# Altium footprint library R_C_L_D.PcbLib: 51 footprints (part 1 of 4)
Each footprint in its own frame and in the unit in brackets; x right, y up, seen from the top. Pads: shape width x height; smd on the part's side, far side on the other; paste and mask are expansions set on the pad; w line width, h text height; cw(c..) or ccw(c..) is an arc to the next point about the centre after c.
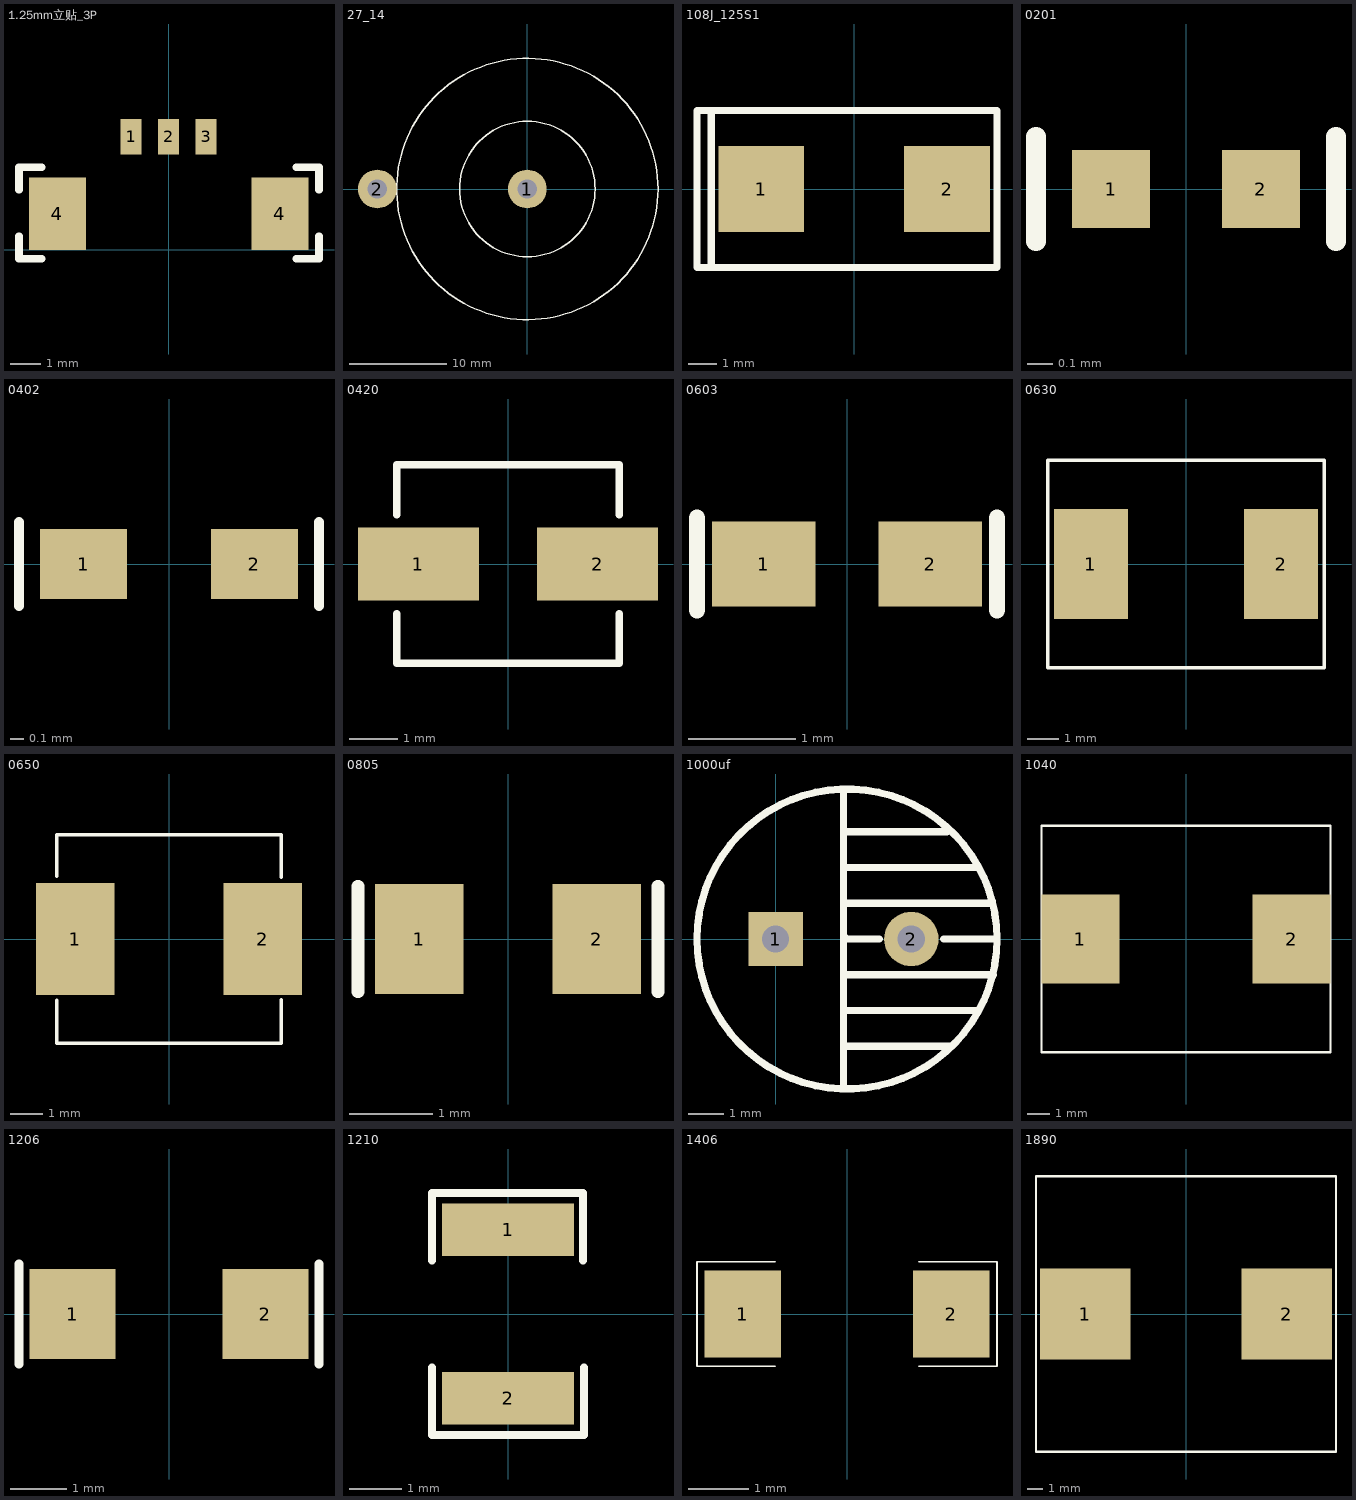
[diagram p0: the footprints below, top view; thin cyan lines are the x and y axes]

## 1.25mm立贴_3P [mm]
pads (5):
  rect 0.7x1.18 smd: 1(-1.25,3.76) 2(0,3.76) 3(1.25,3.76)
  rect 1.9x2.4 smd: 4(-3.7,1.2) 4(3.7,1.2)
Top Overlay:
  lines w0.254: -4.975,0.45 -4.975,-0.3 -4.225,-0.3 ; -4.975,2 -4.975,2.75 -4.225,2.75 ; 4.25,-0.3 5,-0.3 5,0.45 ; 4.25,2.75 5,2.75 5,2

## 27_14 [mm] "磁环电感"
height 11
pads (2):
  round 4 hole 2: 1(0,0) 2(-15.5,0)
Top Overlay:
  circle w0.152: c0,0 r13.5
  circle w0.152: c0,0 r7

## 108J_125S1 [mm] "1000uF"
pads (2):
  rect 3x3 smd: 1(-3.25,0) 2(3.25,0)
Top Overlay:
  lines w0.254: -5,-2.75 -5.5,-2.75 -5.5,2.75 -5,2.75 ; -5,-2.75 -5,2.75 ; -5,-2.75 5,-2.75 5,2.75 -5,2.75

## 0201 [mil] "[0.9*0.3]mm"
pads (2):
  rect 12x12 smd: 1(-11.5,0) 2(11.5,0)
Top Overlay:
  lines w3: -23,-8 -23,8 ; 23,-8 23,8

## 0402 [mil] "[1.9*0.5]mm"
pads (2):
  rect 25x20 smd: 1(-24.5,0) 2(24.5,0)
Top Overlay:
  lines w3: -43,-12 -43,12 ; 43,-12 43,12

## 0420 [mm] "一体成型电感"
height 2
pads (2):
  rect 2.5x1.5 smd: 1(-1.85,0) 2(1.85,0)
Top Overlay:
  lines w0.152: -2.3,-1.03 -2.3,-2.05 2.3,-2.05 2.3,-1.03 ; -2.3,1.016 -2.3,2.05 2.3,2.05 2.3,1.016

## 0603 [mil] "[2.54*0.8]mm"
pads (2):
  rect 38x31 smd: 1(-30.5,0) 2(30.5,0)
Top Overlay:
  lines w6: -55,-17 -55,17 ; 55,-17 55,17

## 0630 [mm] "一体成型电感"
height 3
pads (2):
  rect 2.35x3.5 smd mask+0.07: 1(-3.025,0) 2(3.025,0)
Top Overlay:
  lines w0.102: -4.4,-3.3 4.4,-3.3 4.4,3.3 -4.4,3.3 -4.4,-3.3

## 0650 [mm] "一体成型电感"
height 5
pads (2):
  rect 2.45x3.5 smd mask+0.07: 1(-2.925,0) 2(2.925,0)
Top Overlay:
  lines w0.102: -3.5,-1.9 -3.5,-3.246 3.5,-3.246 ; -3.5,1.949 -3.5,3.25 3.5,3.25 3.5,1.914 ; 3.5,-3.25 3.5,-1.888

## 0805 [mil] "0805"
height 27.56
pads (2):
  rect 42x52 smd: 1(-42,0) 2(42,0)
Top Overlay:
  lines w5.98: -71,-25 -71,25 ; 71,-25 71,25

## 1000uf [mil]
pads (2):
  rect 60x60 hole 30 mask+2.76: 1(0,0)
  round 60 hole 30 mask+2.76: 2(149.61,0)
Top Overlay:
  circle w8: c78.74,0 r165.35
  lines w2: 74.8,0 78.74,3.94
  lines w8: 74.8,-165.35 74.8,165.35 ; 74.8,-118.11 192.91,-118.11 ; 74.8,-78.74 220.47,-78.74 ; 74.8,-39.37 240.16,-39.37 ; 74.8,0 114.17,0 ; 74.8,118.11 188.98,118.11 ; 78.74,39.37 236.22,39.37 ; 78.74,78.74 220.47,78.74 ; 185.04,0 244.09,0

## 1040 [mm] "一体成型电感"
height 3
pads (2):
  rect 3.5x4 smd mask+0.07: 1(-4.75,0) 2(4.75,0)
Top Overlay:
  lines w0.102: -6.5,-5.1 6.5,-5.1 6.5,5.1 -6.5,5.1 -6.5,-5.1

## 1206 [mil] "[4.95*1.6]mm"
pads (2):
  rect 60x63 smd: 1(-67.5,0) 2(67.5,0)
Top Overlay:
  lines w6: -105,-35 -105,35 ; 105,-35 105,35

## 1210 [mm]
pads (2):
  rect 2.5x1 smd: 1(0,1.6) 2(0,-1.6)
Top Overlay:
  lines w0.152: -1.448,-1.016 -1.448,-2.3 1.448,-2.3 1.448,-1.016 ; -1.448,1.016 -1.448,2.3 1.422,2.3 1.422,1.016

## 1406 [mil] "[5.08*1.45]mm"
pads (2):
  rect 50x57 smd: 1(-68,0) 2(68,0)
Top Overlay:
  lines w1: -47,-34 -98,-34 -98,34 -47,34 ; 47,-34 98,-34 98,34 47,34

## 1890 [mm] "[18.2*18.2]mm"
pads (2):
  rect 6x6 smd: 1(-6.65,0) 2(6.65,0)
Top Overlay:
  lines w0.152: -9.906,-9.1 -9.906,9.1 9.906,9.1 9.906,-9.1 -9.906,-9.1